# Altium schematic symbol library SN74LS06D.SchLib: 1 symbol
Pins are listed as number, name and electrical type; pins without a type are passive.

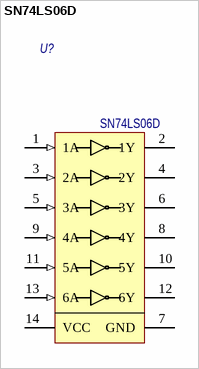
[diagram p0: symbol SN74LS06D]

## SN74LS06D
designator U?
HEX INVERTER BUFFERS/DRIVERS WITH OPEN-COLLECTOR HIGH-VOLTAGE OUTPUTS; Назначение: HEX Inverter with open-collector ouputs; Потребление, Вт: 0,1; ComponentLink1Description: DataSheet; ComponentLink1URL: https://www.ti.com/lit/ds/symlink/sn74ls06.pdf; Наименование: SN74LS06D
footprint SOIC-14
pins: 1 1A (in) "No Connect.", 2 1Y (oc) "No Connect.", 3 2A (in) "No Connect.", 4 2Y (oc) "No Connect.", 5 3A (in) "No Connect.", 6 3Y (oc) "No Connect.", 7 GND (power) "No Connect.", 8 4Y (oc) "No Connect.", 9 4A (in) "No Connect.", 10 5Y (oc) "No Connect.", 11 5A (in) "No Connect.", 12 6Y (oc) "No Connect.", 13 6A (in) "No Connect.", 14 VCC (power) "No Connect."